# Altium schematic symbol library AD39x.Schlib: 1 symbol
Pins are listed as number, name and electrical type; pins without a type are passive.

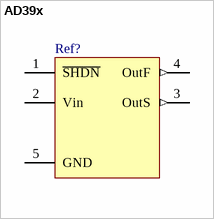
[diagram p0: symbol AD39x]

## AD39x
designator Ref?
Precision voltage reference; Package Information: Latest Revision: ver11.0, Feb-2003; Configures: APEX II, APEX 20K, Mercury, ACEX 1K & FLEX Devices; Code - JEDEC: MS-026-ABA; Published: 17-Sep-2003; Datasheet: Latest Revision: ver1.1, Oct-2003; Package Reference: TQFP32; Publisher: Altium Limited
footprint SOT23-5
pins: 1 ~{SHDN}, 2 Vin (power), 3 OutS (out), 4 OutF (out), 5 GND (power)